# Altium integrated library WakameLibGOOD.IntLib: 52 symbols (part 2 of 3)

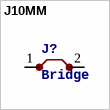
[diagram p23: symbol J10MM]

## J10MM
designator J?, comment Bridge
footprint 10
pins: 1, 2


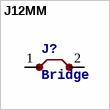
[diagram p24: symbol J12MM]

## J12MM
designator J?, comment Bridge
footprint 12
pins: 1, 2


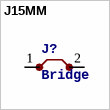
[diagram p25: symbol J15MM]

## J15MM
designator J?, comment Bridge
footprint 15
pins: 1, 2


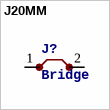
[diagram p26: symbol J20MM]

## J20MM
designator J?, comment Bridge
footprint 20
pins: 1, 2


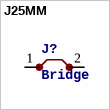
[diagram p27: symbol J25MM]

## J25MM
designator J?, comment Bridge
footprint 25
pins: 1, 2


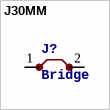
[diagram p28: symbol J30MM]

## J30MM
designator J?, comment Bridge
footprint 30
pins: 1, 2


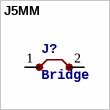
[diagram p29: symbol J5MM]

## J5MM
designator J?, comment Bridge
footprint 05
pins: 1, 2


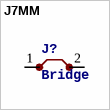
[diagram p30: symbol J7MM]

## J7MM
designator J?, comment Bridge
footprint 07
pins: 1, 2


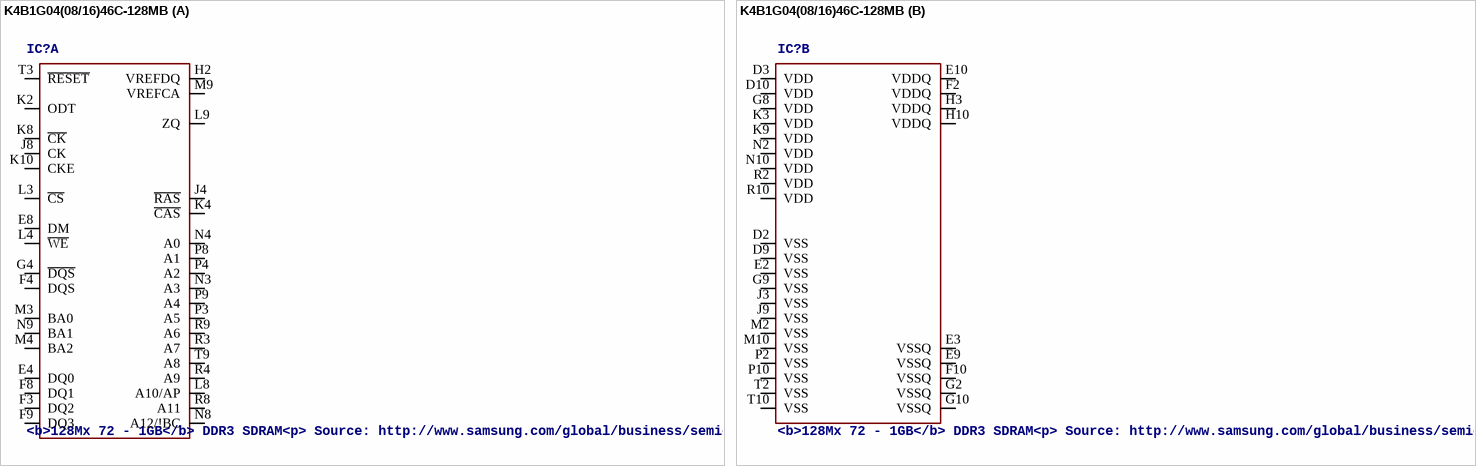
[diagram p31: symbol K4B1G04(08/16)46C-128MB]

## K4B1G04(08/16)46C-128MB
designator IC?, comment <b>128Mx 72 - 1GB</b> DDR3 SDRAM<p> / Source: http://www.samsung.com/global/business/semiconductor/products/dram/downloads/ddr3_product_guide_july_07.pdf
OC_FARNELL: unknown; OC_NEWARK: unknown
footprint FBGA-94-C
part A pins: E4 DQ0, E8 DM, F3 DQ2, F4 DQS, F8 DQ1, F9 DQ3, G4 ~{DQS}, H2 VREFDQ, J4 ~{RAS}, J8 CK, K2 ODT, K4 ~{CAS}, K8 ~{CK}, K10 CKE, L3 ~{CS}, L4 ~{WE}, L8 A10/AP, L9 ZQ, M3 BA0, M4 BA2, M8 NC, M9 VREFCA, N3 A3, N4 A0, N8 A12/!BC, N9 BA1, P3 A5, P4 A2, P8 A1, P9 A4, R3 A7, R4 A9, R8 A11, R9 A6, T3 ~{RESET}, T4 NC, T8 NC, T9 A8
part B pins: D2 VSS, D3 VDD, D9 VSS, D10 VDD, E2 VSS, E3 VSSQ, E9 VSSQ, E10 VDDQ, F2 VDDQ, F10 VSSQ, G2 VSSQ, G8 VDD, G9 VSS, G10 VSSQ, H3 VDDQ, H10 VDDQ, J3 VSS, J9 VSS, K3 VDD, K9 VDD, M2 VSS, M10 VSS, N2 VDD, N10 VDD, P2 VSS, P10 VSS, R2 VDD, R10 VDD, T2 VSS, T10 VSS


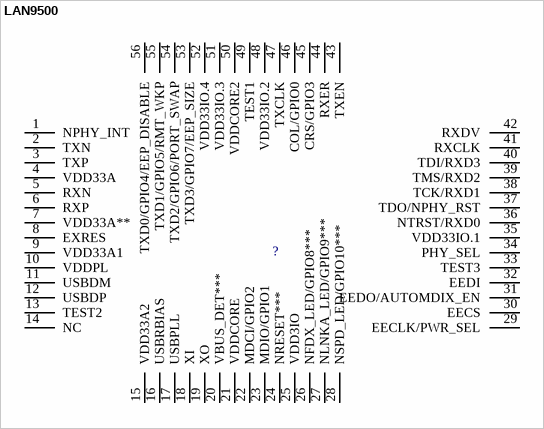
[diagram p32: symbol LAN9500]

## LAN9500
designator ?
footprint QFN56
pins: 1 NPHY_INT, 2 TXN, 3 TXP, 4 VDD33A, 5 RXN, 6 RXP, 7 VDD33A**, 8 EXRES, 9 VDD33A1, 10 VDDPL, 11 USBDM, 12 USBDP, 13 TEST2, 14 NC, 15 VDD33A2, 16 USBRBIAS, 17 USBPLL, 18 XI, 19 XO, 20 VBUS_DET***, 21 VDDCORE, 22 MDCI/GPIO2, 23 MDIO/GPIO1, 24 NRESET***, 25 VDD3IO, 26 NFDX_LED/GPIO8***, 27 NLNKA_LED/GPIO9***, 28 NSPD_LED/GPIO10***, 29 EECLK/PWR_SEL, 30 EECS, 31 EEDO/AUTOMDIX_EN, 32 EEDI, 33 TEST3, 34 PHY_SEL, 35 VDD33IO.1, 36 NTRST/RXD0, 37 TDO/NPHY_RST, 38 TCK/RXD1, 39 TMS/RXD2, 40 TDI/RXD3, 41 RXCLK, 42 RXDV, 43 TXEN, 44 RXER, 45 CRS/GPIO3, 46 COL/GPIO0, 47 TXCLK, 48 VDD33IO.2, 49 TEST1, 50 VDDCORE2, 51 VDD33IO.3, 52 VDD33IO.4, 53 TXD3/GPIO7/EEP_SIZE, 54 TXD2/GPIO6/PORT_SWAP, 55 TXD1/GPIO5/RMT_WKP, 56 TXD0/GPIO4/EEP_DISABLE


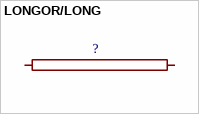
[diagram p33: symbol LONGOR/LONG]

## LONGOR/LONG
designator ?
footprint 0R/10
pins: 1, 2


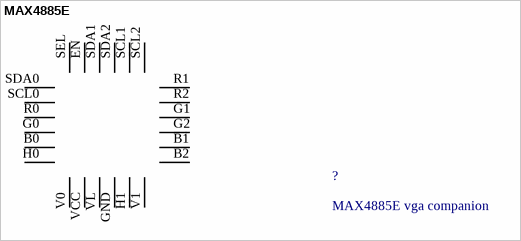
[diagram p34: symbol MAX4885E]

## MAX4885E
designator ?, comment MAX4885E vga companion
footprint TQFN24-EP
pins: B0 P$5, B1 P$14, B2 P$13, EN P$23, G0 P$4, G1 P$16, G2 P$15, GND P$10, H0 P$6, H1 P$11, R0 P$3, R1 P$18, R2 P$17, SCL0 P$2, SCL1 P$20, SCL2 P$19, SDA0 P$1, SDA1 P$22, SDA2 P$21, SEL P$24, V0 P$7, V1 P$12, VCC P$8, VL P$9


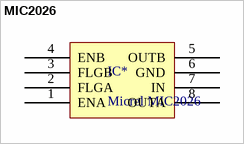
[diagram p35: symbol MIC2026]

## MIC2026
designator IC*, comment Micrel MIC2026
Micrel MIC2026 Dual-Channel Power Distribution Switch
footprint 8-Pin SOIC (SOIC, 8-Leads, Body 6.0x4.0mm (max), Pitch 1.27mm, IPC Medium Density)
footprint DIP-8 (DIP; 8 Leads; Row Spacing 7.62 mm; Pitch 2.54 mm)
pins: 1 ENA, 2 FLGA, 3 FLGB, 4 ENB, 5 OUTB, 6 GND, 7 IN, 8 OUTA


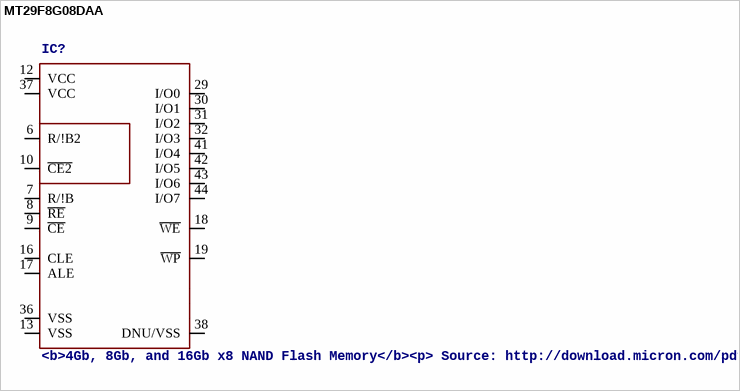
[diagram p36: symbol MT29F8G08DAA]

## MT29F8G08DAA
designator IC?, comment <b>4Gb, 8Gb, and 16Gb x8 NAND Flash Memory</b><p> / Source: http://download.micron.com/pdf/datasheets/flash/nand/4gb_nand_m40a.pdf
OC_FARNELL: unknown; OC_NEWARK: unknown
footprint TSOP48
pins: 6 R/!B2, 7 R/!B, 8 ~{RE}, 9 ~{CE}, 10 ~{CE2}, 12 VCC (power), 13 VSS (power), 16 CLE, 17 ALE, 18 ~{WE}, 19 ~{WP}, 25 DNU, 26 DNU, 29 I/O0, 30 I/O1, 31 I/O2, 32 I/O3, 36 VSS (power), 37 VCC (power), 38 DNU/VSS, 41 I/O4, 42 I/O5, 43 I/O6, 44 I/O7, 48 DNU


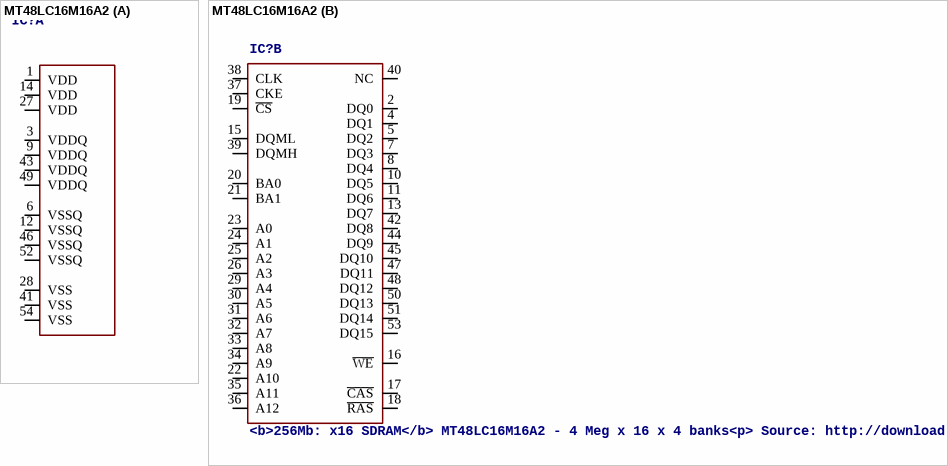
[diagram p37: symbol MT48LC16M16A2]

## MT48LC16M16A2
designator IC?, comment <b>256Mb: x16 SDRAM</b> MT48LC16M16A2 - 4 Meg x 16 x 4 banks<p> / Source: http://download.micron.com/pdf/datasheets/dram/sdram/256MSDRAM.pdf
OC_FARNELL: unknown; OC_NEWARK: unknown
footprint TSOP54-400
part A pins: 1 VDD (power), 3 VDDQ (power), 6 VSSQ (power), 9 VDDQ (power), 12 VSSQ (power), 14 VDD (power), 27 VDD (power), 28 VSS (power), 41 VSS (power), 43 VDDQ (power), 46 VSSQ (power), 49 VDDQ (power), 52 VSSQ (power), 54 VSS (power)
part B pins: 2 DQ0 (hiz), 4 DQ1 (hiz), 5 DQ2 (hiz), 7 DQ3 (hiz), 8 DQ4 (hiz), 10 DQ5 (hiz), 11 DQ6 (hiz), 13 DQ7 (hiz), 15 DQML, 16 ~{WE}, 17 ~{CAS}, 18 ~{RAS}, 19 ~{CS}, 20 BA0, 21 BA1, 22 A10, 23 A0, 24 A1, 25 A2, 26 A3, 29 A4, 30 A5, 31 A6, 32 A7, 33 A8, 34 A9, 35 A11, 36 A12, 37 CKE, 38 CLK, 39 DQMH, 40 NC, 42 DQ8 (hiz), 44 DQ9 (hiz), 45 DQ10 (hiz), 47 DQ11 (hiz), 48 DQ12 (hiz), 50 DQ13 (hiz), 51 DQ14 (hiz), 53 DQ15 (hiz)


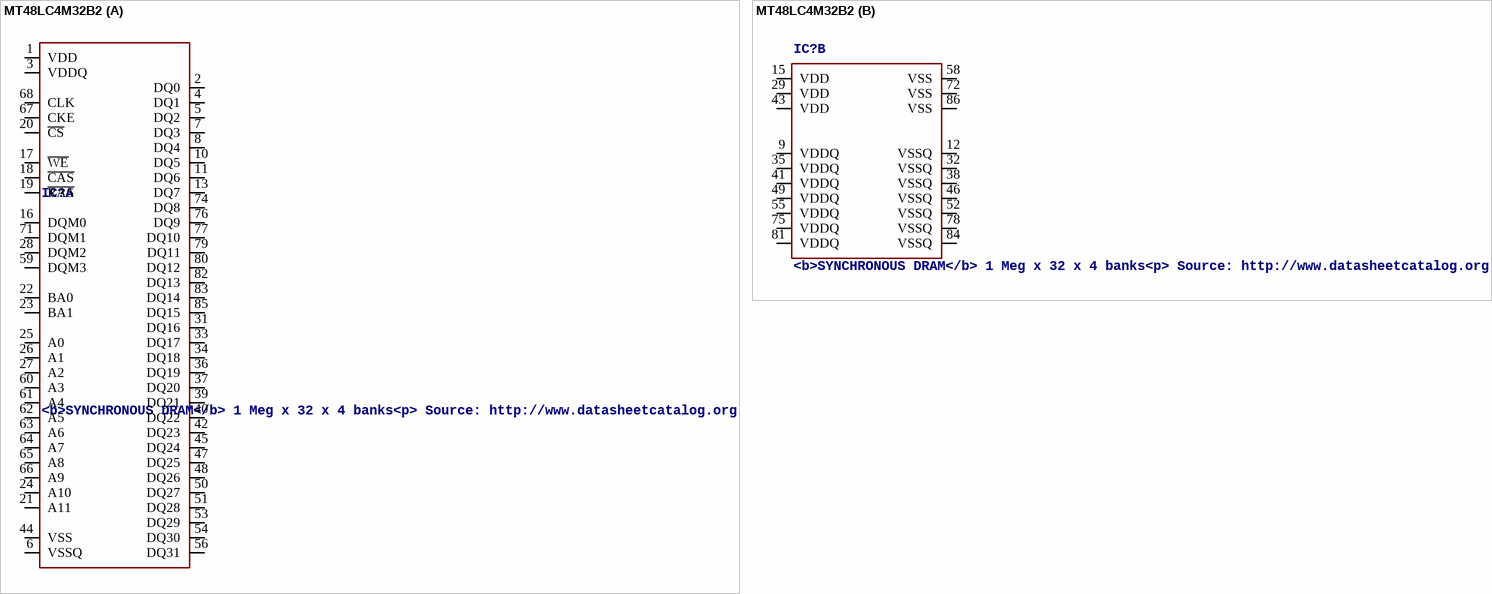
[diagram p38: symbol MT48LC4M32B2]

## MT48LC4M32B2
designator IC?, comment <b>SYNCHRONOUS DRAM</b> 1 Meg x 32 x 4 banks<p> / Source: http://www.datasheetcatalog.org/datasheet/micron/MT48LC4M32B2.pdf
MPN: MT48LC4M32B2P-6:G; OC_FARNELL: 1216286; OC_NEWARK: 97K6124
footprint TSOP86
part A pins: 1 VDD (power), 2 DQ0, 3 VDDQ (power), 4 DQ1, 5 DQ2, 6 VSSQ (power), 7 DQ3, 8 DQ4, 10 DQ5, 11 DQ6, 13 DQ7, 16 DQM0, 17 ~{WE}, 18 ~{CAS}, 19 ~{RAS}, 20 ~{CS}, 21 A11, 22 BA0, 23 BA1, 24 A10, 25 A0, 26 A1, 27 A2, 28 DQM2, 31 DQ16, 33 DQ17, 34 DQ18, 36 DQ19, 37 DQ20, 39 DQ21, 40 DQ22, 42 DQ23, 44 VSS (power), 45 DQ24, 47 DQ25, 48 DQ26, 50 DQ27, 51 DQ28, 53 DQ29, 54 DQ30, 56 DQ31, 59 DQM3, 60 A3, 61 A4, 62 A5, 63 A6, 64 A7, 65 A8, 66 A9, 67 CKE, 68 CLK, 71 DQM1, 74 DQ8, 76 DQ9, 77 DQ10, 79 DQ11, 80 DQ12, 82 DQ13, 83 DQ14, 85 DQ15
part B pins: 9 VDDQ (power), 12 VSSQ (power), 15 VDD (power), 29 VDD (power), 32 VSSQ (power), 35 VDDQ (power), 38 VSSQ (power), 41 VDDQ (power), 43 VDD (power), 46 VSSQ (power), 49 VDDQ (power), 52 VSSQ (power), 55 VDDQ (power), 58 VSS (power), 72 VSS (power), 75 VDDQ (power), 78 VSSQ (power), 81 VDDQ (power), 84 VSSQ (power), 86 VSS (power)


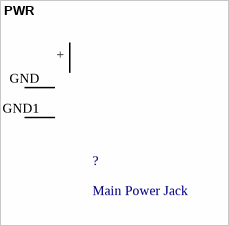
[diagram p39: symbol PWR]

## PWR
designator ?, comment Main Power Jack
footprint SCD-014-A
pins: +, GND, GND1


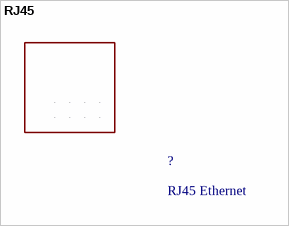
[diagram p40: symbol RJ45]

## RJ45
designator ?, comment RJ45 Ethernet
footprint RJ45-SHIELD1
pins: 1 P$1, 2 P$2, 3 P$3, 4 P$4, 5 P$5, 6 P$6, 7 P$7, 8 P$8


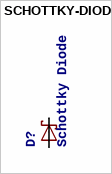
[diagram p41: symbol SCHOTTKY-DIODE]

## SCHOTTKY-DIODE
designator D?, comment Schottky Diode
SPICEMODEL: NONE; SPICEPREFIX: D; SPICETYPE: diode
footprint DIODE_SMB
pins: A C, C A


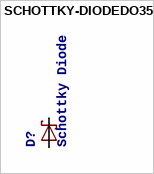
[diagram p42: symbol SCHOTTKY-DIODEDO35-7]

## SCHOTTKY-DIODEDO35-7
designator D?, comment Schottky Diode
SPICEMODEL: NONE; SPICEPREFIX: D; SPICETYPE: diode
footprint DIODE_DO35-7
pins: A C, C A


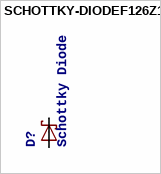
[diagram p43: symbol SCHOTTKY-DIODEF126Z12]

## SCHOTTKY-DIODEF126Z12
designator D?, comment Schottky Diode
SPICEMODEL: NONE; SPICEPREFIX: D; SPICETYPE: diode
footprint DIODE_F126Z12
pins: A C, C A


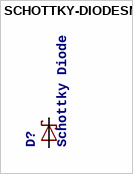
[diagram p44: symbol SCHOTTKY-DIODESMC]

## SCHOTTKY-DIODESMC
designator D?, comment Schottky Diode
SPICEMODEL: NONE; SPICEPREFIX: D; SPICETYPE: diode
footprint DIODE_SMC
pins: A C, C A


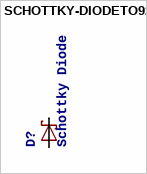
[diagram p45: symbol SCHOTTKY-DIODETO92H]

## SCHOTTKY-DIODETO92H
designator D?, comment Schottky Diode
SPICEMODEL: NONE; SPICEPREFIX: D; SPICETYPE: diode
footprint DIODE_TO92H
pins: 1 C, 2 A
